# EAGLE library part LMC6482 (library scono)
http://www.ti.com/lit/ds/symlink/lmc6482.pdf
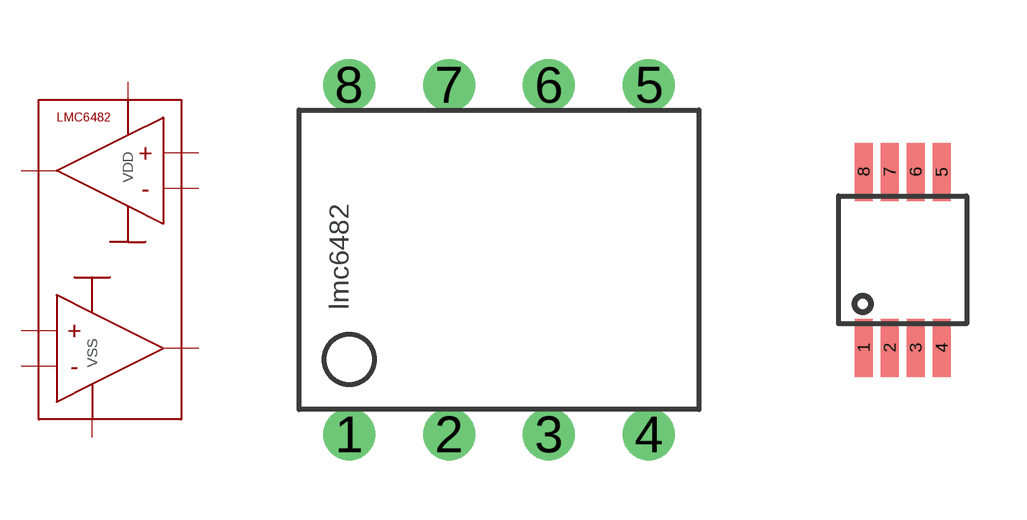
[diagram p26: symbol with the pads of 8DIP; footprints 8DIP, 8SOIC]

Designator prefix IC

## LMC6482DIP  [8DIP]
1  OUT1  pwr
2  NEG1  pwr
3  POS1  pwr
4  VSS  pwr
5  POS2  pwr
6  NEG2  pwr
7  OUT2  pwr
8  VDD  pwr

## LMC6482SOIC  [8SOIC]
Pads as for 8DIP

## Footprint 8DIP (pad centres in mm)
drill 0.813: 1 -3.81,-4.445; 2 -1.27,-4.445; 3 1.27,-4.445; 4 3.81,-4.445; 5 3.81,4.445; 6 1.27,4.445; 7 -1.27,4.445; 8 -3.81,4.445

## Footprint 8SOIC (pad centres in mm)
https://www.digikey.com/product-detail/en/texas-instruments/LMC6482IMX-NOPB/LMC6482IMX-NOPBCT-ND/3440141
smd 0.45 x 1.45: 1 -0.975,-2.2; 2 -0.325,-2.2; 3 0.325,-2.2; 4 0.975,-2.2; 5 0.975,2.2; 6 0.325,2.2; 7 -0.325,2.2; 8 -0.975,2.2